# EAGLE library part MC-KSW-2-46 (library 1A-meinLib)
GaAs Switch, 50 Ohm, SPDT, reflective, DC..4.6GHz, Mini-Circuits
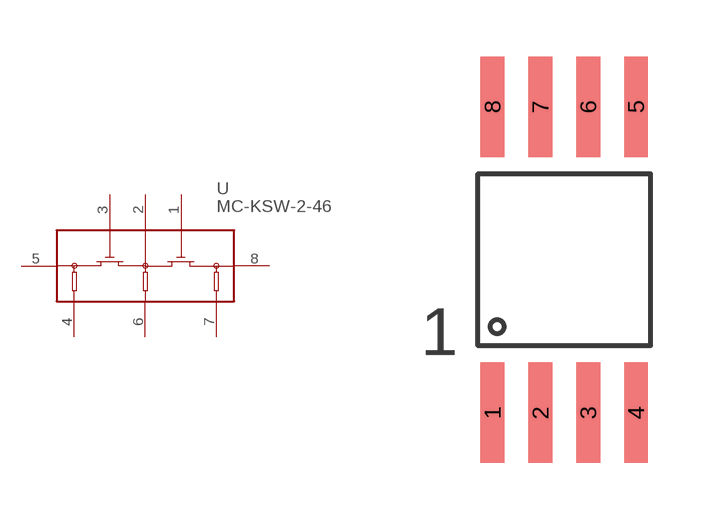
[diagram p12: symbol with the pads of MC_XX112; footprint MC_XX112]

Designator prefix U

## MC-KSW-2-46  [MC_XX112]
1  C2
2  RF_IN
3  C1
4  GND1
5  RF_OUT1
6  GND2
7  GND3
8  RF_OUT2

## Footprint MC_XX112 (pad centres in mm)
smd 0.635 x 2.667: 1 -1.905,-4.064; 2 -0.635,-4.064; 3 0.635,-4.064; 4 1.905,-4.064; 5 1.905,4.064; 6 0.635,4.064; 7 -0.635,4.064; 8 -1.905,4.064